# Altium schematic symbol library RF-IC.SchLib: 2 symbols
Pins are listed as number, name and electrical type; pins without a type are passive.

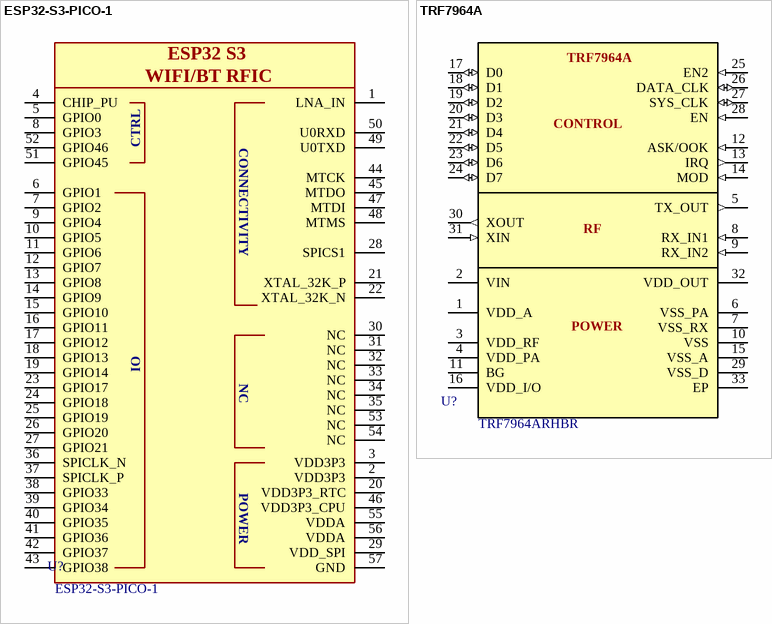
[diagram p0: symbols ESP32-S3-PICO-1 to TRF7964A]

## ESP32-S3-PICO-1
designator U?, comment value ESP32-S3-PICO-1  (hidden comment: ERP_121-4)
RF TXRX MOD BLUETOOTH WIFISMD; Manufacturer 1: Espressif Systems; Package: 56-TFQFN; ERP: *
footprint QFN40P700X700X106_HS-57N (QFN, 56-Leads, Body 7.00x7.00mm, Pitch 0.40mm, Thermal Pad 4.00x4.00mm, IPC Medium Density)
pins: 1 LNA_IN, 2 VDD3P3, 3 VDD3P3, 4 CHIP_PU, 5 GPIO0, 6 GPIO1, 7 GPIO2, 8 GPIO3, 9 GPIO4, 10 GPIO5, 11 GPIO6, 12 GPIO7, 13 GPIO8, 14 GPIO9, 15 GPIO10, 16 GPIO11, 17 GPIO12, 18 GPIO13, 19 GPIO14, 20 VDD3P3_RTC, 21 XTAL_32K_P, 22 XTAL_32K_N, 23 GPIO17, 24 GPIO18, 25 GPIO19, 26 GPIO20, 27 GPIO21, 28 SPICS1, 29 VDD_SPI, 30 NC, 31 NC, 32 NC, 33 NC, 34 NC, 35 NC, 36 SPICLK_N, 37 SPICLK_P, 38 GPIO33, 39 GPIO34, 40 GPIO35, 41 GPIO36, 42 GPIO37, 43 GPIO38, 44 MTCK, 45 MTDO, 46 VDD3P3_CPU, 47 MTDI, 48 MTMS, 49 U0TXD, 50 U0RXD, 51 GPIO45, 52 GPIO46, 53 NC, 54 NC, 55 VDDA, 56 VDDA, 57 GND
text: ESP32 S3; WIFI/BT RFIC; CTRL; CONNECTIVITY; IO; POWER

## TRF7964A
designator U?, comment value TRF7964ARHBR  (hidden comment: ERP_121-4)
IC RFID READER 13.56MHZ 32VQFN; Manufacturer 1: TI; Manufacturer Part Number 1: TRF7964ARHBR; Package: VQFN32; Supplier 1: *; Supplier Part Number 1: *; ERP: *
footprint RHB32_3P45X3P45_TEX
pins: 1 VDD_A, 2 VIN, 3 VDD_RF, 4 VDD_PA, 5 TX_OUT (out), 6 VSS_PA, 7 VSS_RX, 8 RX_IN1 (in), 9 RX_IN2 (in), 10 VSS, 11 BG, 12 ASK/OOK (in), 13 IRQ (out), 14 MOD (in), 15 VSS_A, 16 VDD_I/O, 17 D0 (io), 18 D1 (io), 19 D2 (io), 20 D3 (io), 21 D4 (io), 22 D5 (io), 23 D6 (io), 24 D7 (io), 25 EN2 (in), 26 DATA_CLK (io), 27 SYS_CLK (io), 28 EN (in), 29 VSS_D, 30 XOUT (out), 31 XIN (in), 32 VDD_OUT, 33 EP
text: CONTROL; RF; POWER